# Altium schematic symbol library SamacSys.SchLib: 29 symbols
Pins are listed as number, name and electrical type; pins without a type are passive.

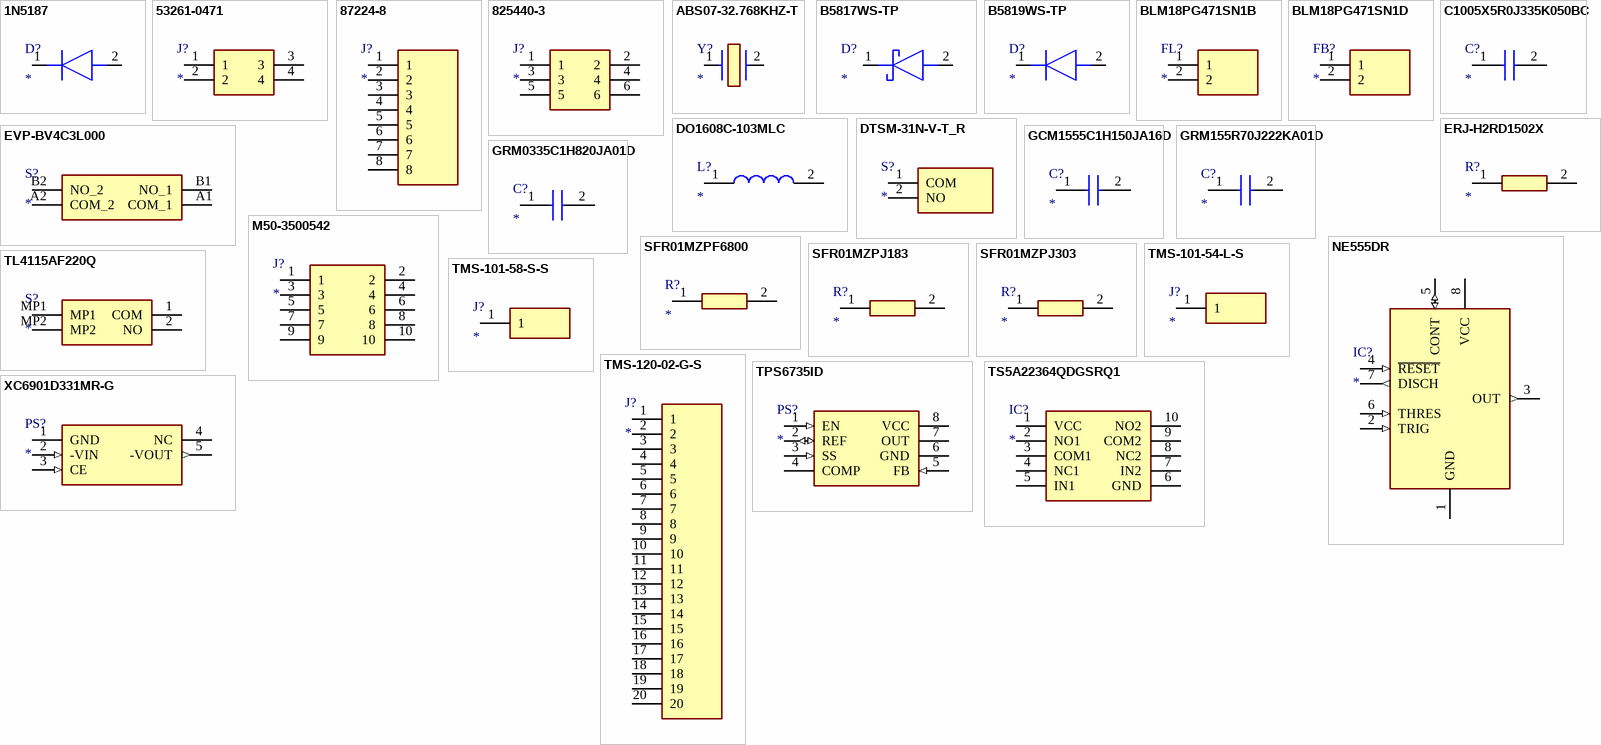
[diagram p0: symbols 1N5187 to XC6901D331MR-G]

## 1N5187
designator D?
Diode; Manufacturer_Name: Microsemi Corporation; Manufacturer_Part_Number: 1N5187; Datasheet Link: http://www.mouser.com/datasheet/2/523/LDS-0216-1393092.pdf; Mouser Part Number: 494-1N5187; Mouser Price/Stock: https://www.mouser.co.uk/ProductDetail/Microchip-Microsemi/1N5187?qs=%252BRKXB2WKlScm0ll2KuNATg%3D%3D; Arrow Part Number: 1N5187; Arrow Price/Stock: https://www.arrow.com/en/products/1n5187/microsemi
footprint DIOAD1944W107L572D343
pins: 1 K, 2 A

## 53261-0471
designator J?
Connector; Manufacturer_Name: Molex; Manufacturer_Part_Number: 53261-0471; Datasheet Link: http://www.molex.com/webdocs/datasheets/pdf/en-us//0532610471_PCB_HEADERS.pdf; Mouser Part Number: 538-53261-0471; Mouser Price/Stock: https://www.mouser.co.uk/ProductDetail/Molex/53261-0471?qs=%252B72YyncTwW9e3et3PwnEMw%3D%3D
footprint 53261-0471
pins: 1, 2, 3, 4

## 87224-8
designator J?
Connector; Manufacturer_Name: TE Connectivity; Manufacturer_Part_Number: 87224-8; Datasheet Link: https://www.te.com/commerce/DocumentDelivery/DDEController?Action=showdoc&DocId=Catalog+Section%7F1307819_SECTION_5%7F0908%7Fpdf%7FEnglish%7FENG_CS_1307819_SECTION_5_0908.pdf%7F87224-8; Height: 10.37mm; Mouser Part Number: 571-872248; Mouser Price/Stock: https://www.mouser.co.uk/ProductDetail/TE-Connectivity/87224-8?qs=AplfTeSvkkCp9ZRzD7JZmw%3D%3D; Arrow Part Number: 87224-8; Arrow Price/Stock: https://www.arrow.com/en/products/87224-8/te-connectivity?region=nac
footprint HDRV8W77P0X254_1X8_1991X254X1037P
pins: 1, 2, 3, 4, 5, 6, 7, 8

## 825440-3
designator J?
Connector; Manufacturer_Name: TE Connectivity; Manufacturer_Part_Number: 825440-3; Datasheet Link: https://www.te.com/commerce/DocumentDelivery/DDEController?Action=srchrtrv&DocNm=825440&DocType=Customer+Drawing&DocLang=English&DocFormat=pdf&PartCntxt=825440-3; Height: 9.5mm; Mouser Part Number: 571-825440-3; Mouser Price/Stock: https://www.mouser.co.uk/ProductDetail/TE-Connectivity/825440-3?qs=cpo3%2FpBou2jPsGtB9h1jjw%3D%3D; Arrow Part Number: 825440-3; Arrow Price/Stock: https://www.arrow.com/en/products/825440-3/te-connectivity?region=europe
footprint HDRV6W63P254_2X3_1524X615X950P
pins: 1, 2, 3, 4, 5, 6

## ABS07-32.768KHZ-T
designator Y?
Crystal or Oscillator; Manufacturer_Name: ABRACON; Manufacturer_Part_Number: ABS07-32.768KHZ-T; Datasheet Link: https://abracon.com/Resonators/ABS07.pdf; Height: 0.9mm; Mouser Part Number: 815-ABS07-32.768KHZT; Mouser Price/Stock: https://www.mouser.co.uk/ProductDetail/ABRACON/ABS07-32.768KHZ-T?qs=3SpAxaLJ01g8GJWeO3sA3Q%3D%3D; Arrow Part Number: ABS07-32.768KHZ-T; Arrow Price/Stock: https://www.arrow.com/en/products/abs07-32.768khz-t/abracon?region=europe
footprint ABS0716632768KHZT
pins: 1, 2

## B5817WS-TP
designator D?
Schottky Diode; Manufacturer_Name: Micro Commercial Components (MCC); Manufacturer_Part_Number: B5817WS-TP; Datasheet Link: https://www.mouser.co.uk/datasheet/2/258/B5817WS-B5819WS(SOD-323)-V2-1626103.pdf; Height: 1.15mm; Mouser Part Number: 833-B5817WS-TP; Mouser Price/Stock: https://www.mouser.co.uk/ProductDetail/Micro-Commercial-Components-MCC/B5817WS-TP?qs=SdqRYZZ9IxCAZAlW9BKhPg%3D%3D; Arrow Part Number: B5817WS-TP; Arrow Price/Stock: https://www.arrow.com/en/products/b5817ws-tp/micro-commercial-components?region=europe
footprint SOD2512X115N
pins: 1 K, 2 A

## B5819WS-TP
designator D?
Diode; Manufacturer_Name: Micro Commercial Components (MCC); Manufacturer_Part_Number: B5819WS-TP; Datasheet Link: https://www.arrow.com/en/products/b5819ws-tp/micro-commercial-components; Height: 1.15mm; Mouser Part Number: 833-B5819WS-TP; Mouser Price/Stock: https://www.mouser.co.uk/ProductDetail/Micro-Commercial-Components-MCC/B5819WS-TP?qs=SdqRYZZ9IxBOLbXcW6zYBA%3D%3D; Arrow Part Number: B5819WS-TP; Arrow Price/Stock: https://www.arrow.com/en/products/b5819ws-tp/micro-commercial-components?region=nac
footprint SOD2512X115N
pins: 1 K, 2 A

## BLM18PG471SN1B
designator FL?
Filter; Manufacturer_Name: Murata Electronics; Manufacturer_Part_Number: BLM18PG471SN1B; Datasheet Link: https://www.murata.com/en-us/products/productdetail?partno=BLM18PG471SN1%23; Height: 0.95mm; Mouser Part Number: 81-BLM18PG471SN1B; Mouser Price/Stock: https://www.mouser.com/Search/Refine.aspx?Keyword=81-BLM18PG471SN1B
footprint BLM18AG102BH1D
pins: 1, 2

## BLM18PG471SN1D
designator FB?
Ferrite Bead; Manufacturer_Name: Murata Electronics; Manufacturer_Part_Number: BLM18PG471SN1D; Datasheet Link: http://www.murata.com/~/media/webrenewal/support/library/catalog/products/emc/emifil/c31e.ashx?la=en-gb; Height: 0.95mm; Mouser Part Number: 81-BLM18PG471SN1D; Mouser Price/Stock: https://www.mouser.co.uk/ProductDetail/Murata-Electronics/BLM18PG471SN1D?qs=EYzdjubb4S%2FN1Ip39GrHyg%3D%3D; Arrow Part Number: BLM18PG471SN1D; Arrow Price/Stock: https://www.arrow.com/en/products/blm18pg471sn1d/murata-manufacturing?region=nac
footprint BLM18EG121SH1D
pins: 1, 2

## C1005X5R0J335K050BC
designator C?
Capacitor; Manufacturer_Name: TDK; Manufacturer_Part_Number: C1005X5R0J335K050BC; Datasheet Link: https://product.tdk.com/system/files/dam/doc/product/capacitor/ceramic/mlcc/catalog/mlcc_commercial_general_en.pdf; Height: 0.55mm; Mouser Part Number: 810-C1005X5R0J335K; Mouser Price/Stock: https://www.mouser.co.uk/ProductDetail/TDK/C1005X5R0J335K050BC?qs=dfay7wIA1uECT7biEkI9Ng%3D%3D; Arrow Part Number: C1005X5R0J335K050BC; Arrow Price/Stock: https://www.arrow.com/en/products/c1005x5r0j335k050bc/tdk
footprint C1005_Commercial
pins: 1, 2

## DO1608C-103MLC
designator L?
Inductor; Manufacturer_Name: COILCRAFT; Manufacturer_Part_Number: DO1608C-103MLC; Datasheet Link: https://www.coilcraft.com/pdfs/do1608c.pdf; Mouser Part Number: 994-DO1608C-103MLC; Mouser Price/Stock: https://www.mouser.co.uk/ProductDetail/Coilcraft/DO1608C-103MLC?qs=zCSbvcPd3pYY5dYqZHdNQA%3D%3D
footprint DO1608C
pins: 1, 2

## DTSM-31N-V-T_R
designator S?
Switch; Manufacturer_Name: Diptronics; Manufacturer_Part_Number: DTSM-31N-V-T/R; Datasheet Link: http://www.dip.com.tw/en/en-product-information/en-switch004/item/2444-dts-3-dtsm-l-3; Height: 5mm; Mouser Part Number: 113-DTSM31NVTR; Mouser Price/Stock: https://www.mouser.co.uk/ProductDetail/Diptronics/DTSM-31N-V-T-R?qs=MLItCLRbWszzBdU5lCl7JA%3D%3D
footprint DTSM32NVTR
pins: 1 COM, 2 NO

## ERJ-H2RD1502X
designator R?
Resistor; Manufacturer_Name: Panasonic; Manufacturer_Part_Number: ERJ-H2RD1502X; Description: Power Rating 0.1W,Resistance 15000 Ohm,LxW(EIA) 1.0 x 0.5 (EIA:0402) mm; Datasheet Link: http://industrial.panasonic.com/cdbs/www-data/pdf/RDQ0000/ast-ind-151033.pdf
footprint H2C/H2R
pins: 1, 2

## EVP-BV4C3L000
designator S?
Switch; Manufacturer_Name: Panasonic; Manufacturer_Part_Number: EVP-BV4C3L000; Datasheet Link: https://www.mouser.com/pdfDocs/SwitchEVP-BVSeries030122.pdf; Height: 4.3mm; Mouser Part Number: 667-EVP-BV4C3L000; Mouser Price/Stock: https://www.mouser.co.uk/ProductDetail/Panasonic/EVP-BV4C3L000?qs=MyNHzdoqoQJfp4SmMyVCGw%3D%3D
footprint EVPBV4C3L000
pins: A1 COM_1, A2 COM_2, B1 NO_1, B2 NO_2

## GCM1555C1H150JA16D
designator C?
Capacitor; Manufacturer_Name: Murata Electronics; Manufacturer_Part_Number: GCM1555C1H150JA16D; Datasheet Link: https://psearch.en.murata.com/capacitor/product/GCM1555C1H150JA16%23.html; Height: 0.55mm; Mouser Part Number: 81-GCM1555C1H150JA6D; Mouser Price/Stock: https://www.mouser.co.uk/ProductDetail/Murata-Electronics/GCM1555C1H150JA16D?qs=jDWTHf1mkXYg4D1%252B30O6Eg%3D%3D; Arrow Part Number: GCM1555C1H150JA16D; Arrow Price/Stock: https://www.arrow.com/en/products/gcm1555c1h150ja16d/murata-manufacturing?region=nac
footprint CAPC1005X55N
pins: 1, 2

## GRM155R70J222KA01D
designator C?
Capacitor; Manufacturer_Name: Murata Electronics; Manufacturer_Part_Number: GRM155R70J222KA01D; Datasheet Link: https://datasheet.datasheetarchive.com/originals/distributors/Datasheets_SAMA/ec4f1577dddcc7a13ddad897a28002d3.pdf; Height: 0.55mm; Mouser Part Number: 81-GRM155R70J222KA1D; Mouser Price/Stock: https://www.mouser.co.uk/ProductDetail/Murata-Electronics/GRM155R70J222KA01D?qs=y02iAgv9n62BiqXMhBx0hg%3D%3D; Arrow Part Number: GRM155R70J222KA01D; Arrow Price/Stock: https://www.arrow.com/en/products/grm155r70j222ka01d/murata-manufacturing
footprint CAPC1005X55N
pins: 1, 2

## GRM0335C1H820JA01D
designator C?
Capacitor; Manufacturer_Name: Murata Electronics; Manufacturer_Part_Number: GRM0335C1H820JA01D; Datasheet Link: https://psearch.en.murata.com/capacitor/product/GRM0335C1H820JA01%23.html; Height: 0.33mm
footprint CAPC0603X33N
pins: 1, 2

## M50-3500542
designator J?
Connector; Manufacturer_Name: Harwin; Manufacturer_Part_Number: M50-3500542; Datasheet Link: https://datasheet.datasheetarchive.com/originals/distributors/SFDatasheet-1/sf-00022684.pdf; Height: 4.15mm; Mouser Part Number: 855-M50-3500542; Mouser Price/Stock: https://www.mouser.co.uk/ProductDetail/Harwin/M50-3500542?qs=9fQaSFfsqsyXI0P9tFOVoQ%3D%3D
footprint M503500542
pins: 1, 2, 3, 4, 5, 6, 7, 8, 9, 10

## NE555DR
designator IC?
Integrated Circuit; Manufacturer_Name: Texas Instruments; Manufacturer_Part_Number: NE555DR; Datasheet Link: http://www.ti.com/lit/ds/symlink/ne555.pdf; Height: 1.75mm; Mouser Part Number: 595-NE555DR; Mouser Price/Stock: https://www.mouser.com/Search/Refine.aspx?Keyword=595-NE555DR; RS Part Number: 1218414; RS Price/Stock: http://uk.rs-online.com/web/p/products/1218414
footprint SOIC127P600X175-8N
pins: 1 GND (power), 2 TRIG (in), 3 OUT (out), 4 ~{RESET} (in), 5 CONT (io), 6 THRES (in), 7 DISCH (out), 8 VCC (power)

## SFR01MZPF6800
designator R?
Resistor; Manufacturer_Name: ROHM Semiconductor; Manufacturer_Part_Number: SFR01MZPF6800; Datasheet Link: https://www.mouser.co.uk/datasheet/2/348/sfr_e-3009639.pdf; Height: 0.4mm
footprint RESC1005X40N
pins: 1, 2

## SFR01MZPJ183
designator R?
Resistor; Manufacturer_Name: ROHM Semiconductor; Manufacturer_Part_Number: SFR01MZPJ183; Datasheet Link: https://www.mouser.co.uk/datasheet/2/348/sfr_e-3009639.pdf; Height: 0.4mm
footprint RESC1005X40N
pins: 1, 2

## SFR01MZPJ303
designator R?
Resistor; Manufacturer_Name: ROHM Semiconductor; Manufacturer_Part_Number: SFR01MZPJ303; Datasheet Link: https://www.mouser.co.uk/datasheet/2/348/sfr_e-3009639.pdf; Height: 0.4mm
footprint RESC1005X40N
pins: 1, 2

## TL4115AF220Q
designator S?
Switch; Manufacturer_Name: E-Switch; Manufacturer_Part_Number: TL4115AF220Q; Datasheet Link: http://spec_sheets.e-switch.com/specs/P180001.pdf; Height: 2.45mm; Mouser Part Number: 612-TL4115AF220Q; Mouser Price/Stock: https://www.mouser.co.uk/ProductDetail/E-Switch/TL4115AF220Q?qs=QNEnbhJQKvaV2KUpYurOrQ%3D%3D
footprint TL4115AF220Q
pins: 1 COM, 2 NO, MP1, MP2

## TMS-101-54-L-S
designator J?
Connector; Manufacturer_Name: SAMTEC; Manufacturer_Part_Number: TMS-101-54-L-S; Datasheet Link: http://suddendocs.samtec.com/prints/tms-1xx-xx-xx-x-xx-xxx-mkt.pdf
footprint TMS-101-YY-XX-S
pins: 1

## TMS-101-58-S-S
designator J?
Connector; Manufacturer_Name: SAMTEC; Manufacturer_Part_Number: TMS-101-58-S-S; Datasheet Link: http://suddendocs.samtec.com/prints/tms-1xx-xx-xx-x-xx-xxx-mkt.pdf
footprint TMS-101-YY-XX-S
pins: 1

## TMS-120-02-G-S
designator J?
Connector; Manufacturer_Name: SAMTEC; Manufacturer_Part_Number: TMS-120-02-G-S; Datasheet Link: http://suddendocs.samtec.com/prints/tms-1xx-xx-xx-x-xx-xxx-mkt.pdf; Mouser Part Number: 200-TMS12002GS; Mouser Price/Stock: https://www.mouser.co.uk/ProductDetail/Samtec/TMS-120-02-G-S?qs=0lQeLiL1qyZLykZTiH0Mag%3D%3D
footprint TMS-120-YY-XX-S
pins: 1, 2, 3, 4, 5, 6, 7, 8, 9, 10, 11, 12, 13, 14, 15, 16, 17, 18, 19, 20

## TPS6735ID
designator PS?
Power Supply; Manufacturer_Name: Texas Instruments; Manufacturer_Part_Number: TPS6735ID; Datasheet Link: https://www.ti.com.cn/cn/lit/ds/symlink/tps6735.pdf?ts=1616851433916&ref_url=https%253A%252F%252Fwww.ti.com.cn%252Fsitesearch%252Fcn%252Fdocs%252Funiversalsearch.tsp%253FsearchTerm%253Dtps6735; Height: 1.75mm; Mouser Part Number: 595-TPS6735ID; Mouser Price/Stock: https://www.mouser.co.uk/ProductDetail/Texas-Instruments/TPS6735ID?qs=YhsVCygOPE2B2F%252BGef%2FDjA%3D%3D
footprint SOIC127P600X175-8N
pins: 1 EN (in), 2 REF (io), 3 SS (in), 4 COMP, 5 FB (in), 6 GND (power), 7 OUT (power), 8 VCC (power)

## TS5A22364QDGSRQ1
designator IC?
Integrated Circuit; Manufacturer_Name: Texas Instruments; Manufacturer_Part_Number: TS5A22364QDGSRQ1; Datasheet Link: http://www.ti.com/lit/gpn/ts5a22364-q1; Height: 1.1mm; Mouser Part Number: 595-TS5A22364QDGSRQ1; Mouser Price/Stock: https://www.mouser.co.uk/ProductDetail/Texas-Instruments/TS5A22364QDGSRQ1?qs=1CfNGUMoiQ80LHbRl6nZYw%3D%3D; Arrow Part Number: TS5A22364QDGSRQ1; Arrow Price/Stock: https://www.arrow.com/en/products/ts5a22364qdgsrq1/texas-instruments?region=nac
footprint SOP50P490X110-10N
pins: 1 VCC, 2 NO1, 3 COM1, 4 NC1, 5 IN1, 6 GND, 7 IN2, 8 NC2, 9 COM2, 10 NO2

## XC6901D331MR-G
designator PS?
Power Supply; Manufacturer_Name: Torex; Manufacturer_Part_Number: XC6901D331MR-G; Datasheet Link: https://ms.componentsearchengine.com/Datasheets/2/XC6901D331MR-G.pdf; Height: 1.3mm; Mouser Part Number: 865-XC6901D331MR-G; Mouser Price/Stock: https://www.mouser.co.uk/ProductDetail/Torex-Semiconductor/XC6901D331MR-G?qs=AsjdqWjXhJ%2FQIk2kdQmgqw%3D%3D
footprint SOT95P280X130-5N
pins: 1 GND (power), 2 -VIN (in), 3 CE (in), 4 NC, 5 -VOUT (out)